# EAGLE library part CAT25128-UDFN8 (library funkfinger)
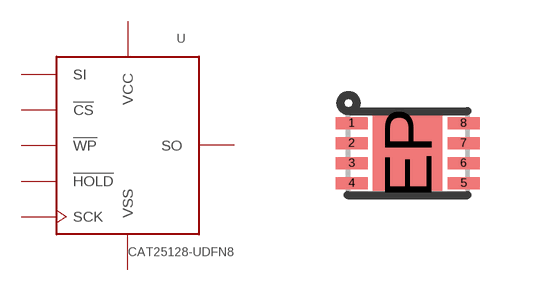
[diagram p6: symbol with the pads of UDFN-8; footprint UDFN-8]

Designator prefix -

## CAT25128-UDFN8  [UDFN-8]
1  !CS  in
2  SO  out
3  !WP  in
4  VSS  pas
5  SI  in
6  SCK  in
7  !HOLD  in
8  VCC  pas

## Footprint UDFN-8 (pad centres in mm)
smd 0.8 x 0.3: 1 -1.4,0.75; 2 -1.4,0.25; 3 -1.4,-0.25; 4 -1.4,-0.75; 5 1.4,-0.75; 6 1.4,-0.25; 7 1.4,0.25; 8 1.4,0.75
smd 1.73 x 1.88: EP 0,0